# EAGLE library part ESP-12E (library IntegratedLib)
Modulo Wifi ESP-12E
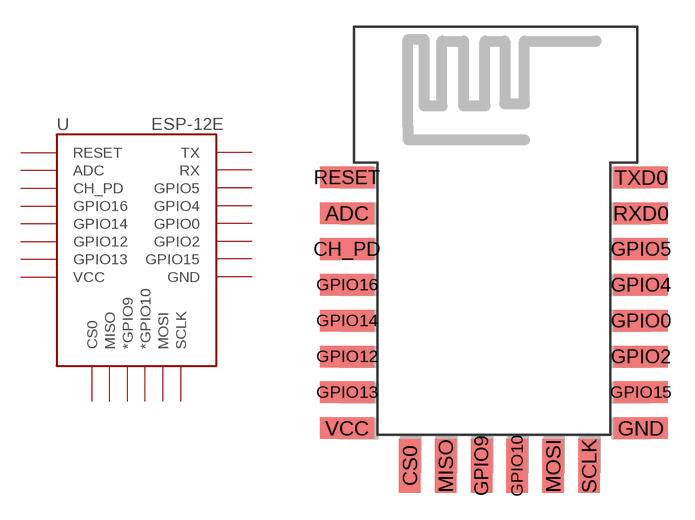
[diagram p46: symbol with the pads of ESP12E-SMD; footprint ESP12E-SMD]

Designator prefix U

## ESP-12E (TIPO: CIRCUITO INTEGRADO)  [ESP12E-SMD]
ADC  ADC
CH_PD  CH_PD
CS0  CS0
GND  GND
GPIO0  GPIO0
GPIO2  GPIO2
GPIO4  GPIO4
GPIO5  GPIO5
GPIO9  *GPIO9
GPIO10  *GPIO10
GPIO12  GPIO12
GPIO13  GPIO13
GPIO14  GPIO14
GPIO15  GPIO15
GPIO16  GPIO16
MISO  MISO
MOSI  MOSI
RESET  RESET
RXD0  RX
SCLK  SCLK
TXD0  TX
VCC  VCC

## Footprint ESP12E-SMD (pad centres in mm)
smd 3 x 1.2: ADC -8.3,5.07; CH_PD -8.3,3.07; GND 8.1,-6.93; GPIO0 8.1,-0.93; GPIO2 8.1,-2.93; GPIO4 8.1,1.07; GPIO5 8.1,3.07; GPIO12 -8.3,-2.93; GPIO13 -8.3,-4.93; GPIO14 -8.3,-0.93; GPIO15 8.1,-4.93; GPIO16 -8.3,1.07; RESET -8.3,7.07; RXD0 8.1,5.07; TXD0 8.1,7.07; VCC -8.3,-6.93
smd 1.2 x 3: CS0 -4.8,-9.03; GPIO9 -0.8,-9.03; GPIO10 1.2,-9.03; MISO -2.8,-9.03; MOSI 3.2,-9.03; SCLK 5.2,-9.03